# EAGLE library part 74HC04 (library 74HCXX_philips)
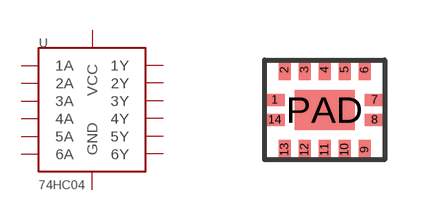
[diagram p0: symbol with the pads of 14-VFQFN; footprint 14-VFQFN]

Designator prefix -

## 74HC04  [14-VFQFN]
1  1A
2  1Y
3  2A
4  2Y
5  3A
6  3Y
7  GND
8  4Y
9  4A
10  5Y
11  5A
12  6Y
13  6A
14  VCC
PAD  GND1

## Footprint 14-VFQFN (pad centres in mm)
smd 0.5 x 0.3: 1 -1.25,0.25; 7 1.25,0.25; 8 1.25,-0.25; 14 -1.25,-0.25
smd 0.3 x 0.5: 2 -1,1; 3 -0.5,1; 4 0,1; 5 0.5,1; 6 1,1; 9 1,-1; 10 0.5,-1; 11 0,-1; 12 -0.5,-1; 13 -1,-1
smd 1.5 x 1: PAD 0,0